# EAGLE library part MD09SS (library con-yamaichi)
YAMAICHI CONNECTOR
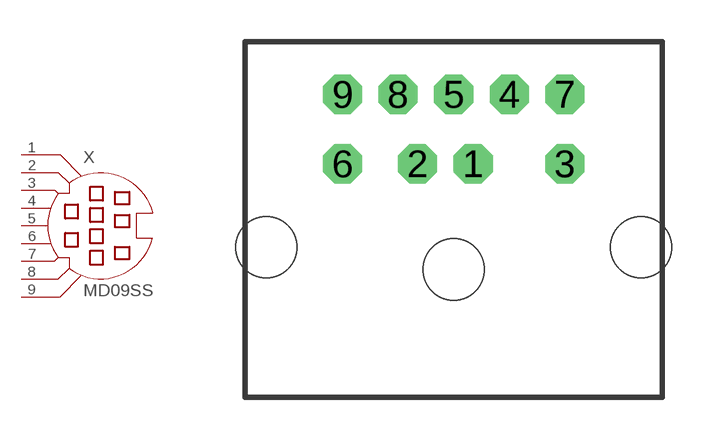
[diagram p20: symbol with the pads of MDIN09SS; footprint MDIN09SS]

Designator prefix X

## MD09SS (OC_FARNELL: unknown; OC_NEWARK: unknown)  [MDIN09SS]
1  1  pas
2  2  pas
3  3  pas
4  4  pas
5  5  pas
6  6  pas
7  7  pas
8  8  pas
9  9  pas

## Footprint MDIN09SS (pad centres in mm)
Mini Din YAMAICHI CONNECTOR
drill 0.9 octagon: 1 0.7,8.5; 2 -1.3,8.5; 3 4,8.5; 4 2,11; 5 0,11; 6 -4,8.5; 7 4,11; 8 -2,11; 9 -4,11
hole 2.2 at -6.75,5.5
hole 2.2 at 0,4.7
hole 2.2 at 6.75,5.5